# EAGLE library part ATMEGA32U4-MP (library zz-upenn)
MICROCONTROLLER 32 Kbytes FLASH 2 Kbytes SRAM 1 Kbytes EEPROM USART 8-channel 10 bit ADC Source: www.atmel.com .. doc2503.pdf
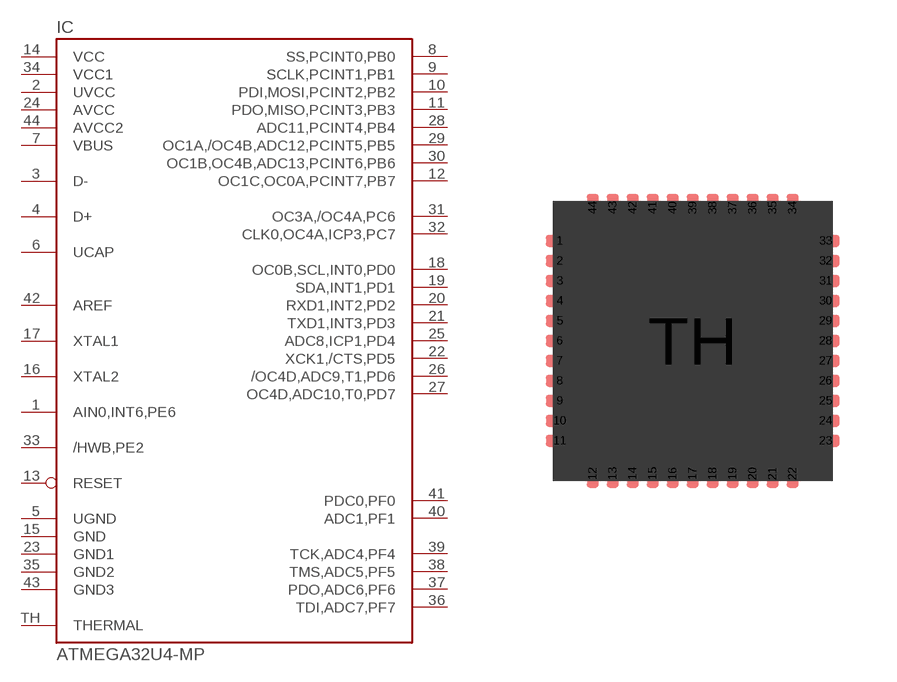
[diagram p7: symbol with the pads of MLF44-TH; footprint MLF44-TH]

Designator prefix IC

## ATMEGA32U4-MP  [MLF44-TH]
1  AIN0,INT6,PE6
2  UVCC  pwr
3  D-
4  D+
5  UGND  pwr
6  UCAP
7  VBUS
8  SS,PCINT0,PB0
9  SCLK,PCINT1,PB1
10  PDI,MOSI,PCINT2,PB2
11  PDO,MISO,PCINT3,PB3
12  OC1C,OC0A,PCINT7,PB7
13  RESET  in
14  VCC  pwr
15  GND  pwr
16  XTAL2
17  XTAL1
18  OC0B,SCL,INT0,PD0
19  SDA,INT1,PD1
20  RXD1,INT2,PD2
21  TXD1,INT3,PD3
22  XCK1,/CTS,PD5
23  GND1  pwr
24  AVCC  pwr
25  ADC8,ICP1,PD4
26  /OC4D,ADC9,T1,PD6
27  OC4D,ADC10,T0,PD7
28  ADC11,PCINT4,PB4
29  OC1A,/OC4B,ADC12,PCINT5,PB5
30  OC1B,OC4B,ADC13,PCINT6,PB6
31  OC3A,/OC4A,PC6
32  CLK0,OC4A,ICP3,PC7
33  /HWB,PE2
34  VCC1  pwr
35  GND2  pwr
36  TDI,ADC7,PF7
37  PDO,ADC6,PF6
38  TMS,ADC5,PF5
39  TCK,ADC4,PF4
40  ADC1,PF1
41  PDC0,PF0
42  AREF  pas
43  GND3  pwr
44  AVCC2
TH  THERMAL  in

## Footprint MLF44-TH (pad centres in mm)
44M1 Micro Lead Frame package (MLF) Source: http://www.atmel.com/dyn/resources/prod_documents/doc2593.pdf
smd 0.7 x 0.3: 1 -3.325,2.5; 2 -3.325,2; 3 -3.325,1.5; 4 -3.325,1; 5 -3.325,0.5; 6 -3.325,0; 7 -3.325,-0.5; 8 -3.325,-1; 9 -3.325,-1.5; 10 -3.325,-2; 11 -3.325,-2.5; 23 3.325,-2.5; 24 3.325,-2; 25 3.325,-1.5; 26 3.325,-1; 27 3.325,-0.5; 28 3.325,0; 29 3.325,0.5; 30 3.325,1; 31 3.325,1.5; 32 3.325,2; 33 3.325,2.5
smd 0.3 x 0.7: 12 -2.5,-3.325; 13 -2,-3.325; 14 -1.5,-3.325; 15 -1,-3.325; 16 -0.5,-3.325; 17 0,-3.325; 18 0.5,-3.325; 19 1,-3.325; 20 1.5,-3.325; 21 2,-3.325; 22 2.5,-3.325; 34 2.5,3.325; 35 2,3.325; 36 1.5,3.325; 37 1,3.325; 38 0.5,3.325; 39 0,3.325; 40 -0.5,3.325; 41 -1,3.325; 42 -1.5,3.325; 43 -2,3.325; 44 -2.5,3.325
smd 5.2 x 5.2: TH 0,0